# Altium schematic symbol library LTC2373CUH-16#PBF.SchLib: 1 symbol
Pins are listed as number, name and electrical type; pins without a type are passive.

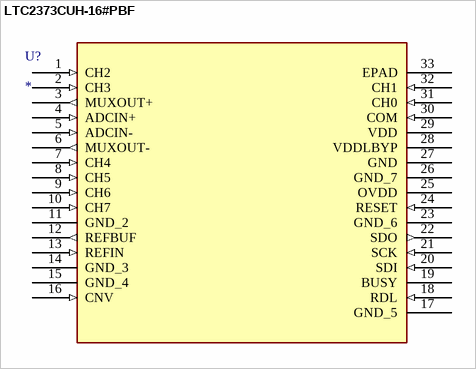
[diagram p0: symbol LTC2373CUH-16#PBF]

## LTC2373CUH-16#PBF
designator U?
footprint LTC_2373_Footprint
pins: 1 CH2 (in), 2 CH3 (in), 3 MUXOUT+ (out), 4 ADCIN+ (in), 5 ADCIN- (in), 6 MUXOUT- (out), 7 CH4 (in), 8 CH5 (in), 9 CH6 (in), 10 CH7 (in), 11 GND_2 (power), 12 REFBUF (out), 13 REFIN (in), 14 GND_3 (power), 15 GND_4 (power), 16 CNV (in), 17 GND_5 (power), 18 RDL (in), 19 BUSY, 20 SDI (in), 21 SCK (in), 22 SDO (out), 23 GND_6 (power), 24 RESET (in), 25 OVDD (power), 26 GND_7 (power), 27 GND (power), 28 VDDLBYP (power), 29 VDD (power), 30 COM (in), 31 CH0 (in), 32 CH1 (in), 33 EPAD